# Altium footprint library ST25DV04K.PcbLib: 3 footprints
Each footprint in its own frame and in the unit in brackets; x right, y up, seen from the top. Pads: shape width x height; smd on the part's side, far side on the other; paste and mask are expansions set on the pad; w line width, h text height; cw(c..) or ccw(c..) is an arc to the next point about the centre after c.
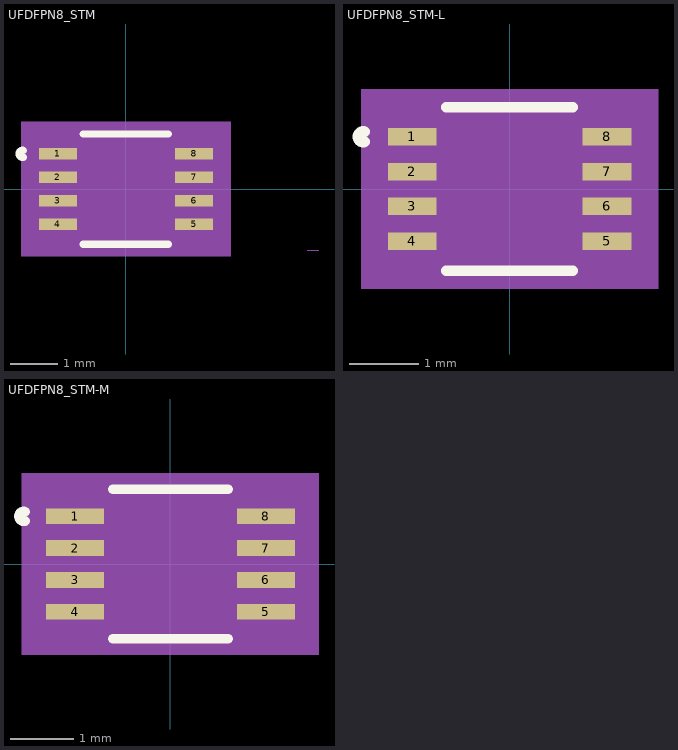
[diagram p0: the footprints below, top view; thin cyan lines are the x and y axes]

## UFDFPN8_STM [mm]
pads (8):
  rect 0.805x0.249 smd paste+0 mask+0: 1(-1.452,0.751) 2(-1.452,0.25) 3(-1.452,-0.25) 4(-1.452,-0.751) 5(1.452,-0.751) 6(1.452,-0.25) 7(1.452,0.25) 8(1.452,0.751)
Top Overlay:
  lines w0.152: -2.187,0.677 cw(c-2.206,0.751) -2.187,0.824 ; -0.91,-1.177 0.91,-1.177 ; -0.91,1.177 0.91,1.177
Mechanical 5:
  region: 2.235,-1.431 -2.235,-1.431 -2.235,1.431 2.235,1.431
Mechanical 7:
  lines w0.025: 3.865,-1.304 4.119,-1.304
Mechanical 13:
  circle w0.152: c-1.049,0.751 r0.076
  lines w0: -0.305,1.05 ccw(c0,1.05) 0.305,1.05
  lines w0.025: -1.549,-1.05 -1.549,1.05 1.549,1.05 1.549,-1.05 -1.549,-1.05
3D body: height 1.25, standoff 0, extent -1.524,-1.143 1.524,1.143

## UFDFPN8_STM-L [mm]
pads (8):
  rect 0.704x0.249 smd paste+0 mask+0: 1(-1.401,0.751) 2(-1.401,0.25) 3(-1.401,-0.25) 4(-1.401,-0.751) 5(1.401,-0.751) 6(1.401,-0.25) 7(1.401,0.25) 8(1.401,0.751)
Top Overlay:
  lines w0.152: -2.085,0.677 cw(c-2.104,0.751) -2.085,0.824 ; -0.91,-1.177 0.91,-1.177 ; -0.91,1.177 0.91,1.177
Mechanical 5:
  region: 2.134,-1.431 -2.134,-1.431 -2.134,1.431 2.134,1.431
Mechanical 13:
  circle w0.152: c-1.049,0.751 r0.076
  lines w0: -0.305,1.05 ccw(c0,1.05) 0.305,1.05
  lines w0.025: -1.549,-1.05 1.549,-1.05 1.549,1.05 -1.549,1.05 -1.549,-1.05
3D body: height 1.25, standoff 0, extent -1.27,-1.143 1.27,1.143

## UFDFPN8_STM-M [mm]
pads (8):
  rect 0.907x0.249 smd paste+0 mask+0: 1(-1.502,0.751) 2(-1.502,0.25) 3(-1.502,-0.25) 4(-1.502,-0.751) 5(1.502,-0.751) 6(1.502,-0.25) 7(1.502,0.25) 8(1.502,0.751)
Top Overlay:
  lines w0.152: -2.289,0.677 cw(c-2.308,0.751) -2.289,0.824 ; -0.91,-1.177 0.91,-1.177 ; -0.91,1.177 0.91,1.177
Mechanical 5:
  region: 2.337,-1.431 -2.337,-1.431 -2.337,1.431 2.337,1.431
Mechanical 13:
  circle w0.152: c-1.049,0.751 r0.076
  lines w0: -0.305,1.05 ccw(c0,1.05) 0.305,1.05
  lines w0.025: -1.549,-1.05 1.549,-1.05 1.549,1.05 -1.549,1.05 -1.549,-1.05
3D body: height 1.25, standoff 0, extent -1.397,-1.143 1.397,1.207